# EAGLE library part LTC4412 (library agsys-psu)
LTC4412 PowerPath Controller
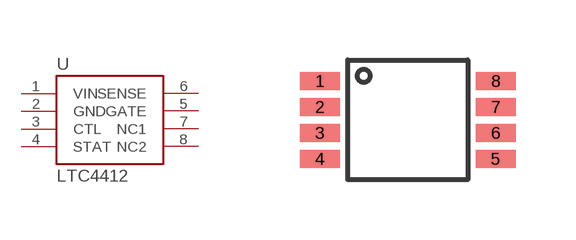
[diagram p1: symbol with the pads of MSOP-8; footprint MSOP-8]

Designator prefix U

## LTC4412  [MSOP-8]
1  VIN  pwr
2  GND  pwr
3  CTL  in
4  STAT  out
5  GATE  out
6  SENSE  in
7  NC1  nc
8  NC2  nc

## Footprint MSOP-8 (pad centres in mm)
MSOP-8 - LTC4412
smd 1 x 0.45: 1 -2.2,0.975; 2 -2.2,0.325; 3 -2.2,-0.325; 4 -2.2,-0.975; 5 2.2,-0.975; 6 2.2,-0.325; 7 2.2,0.325; 8 2.2,0.975